# Altium footprint library ANTENNA.PcbLib: 5 footprints
Each footprint in its own frame and in the unit in brackets; x right, y up, seen from the top. Pads: shape width x height; smd on the part's side, far side on the other; paste and mask are expansions set on the pad; w line width, h text height; cw(c..) or ccw(c..) is an arc to the next point about the centre after c.
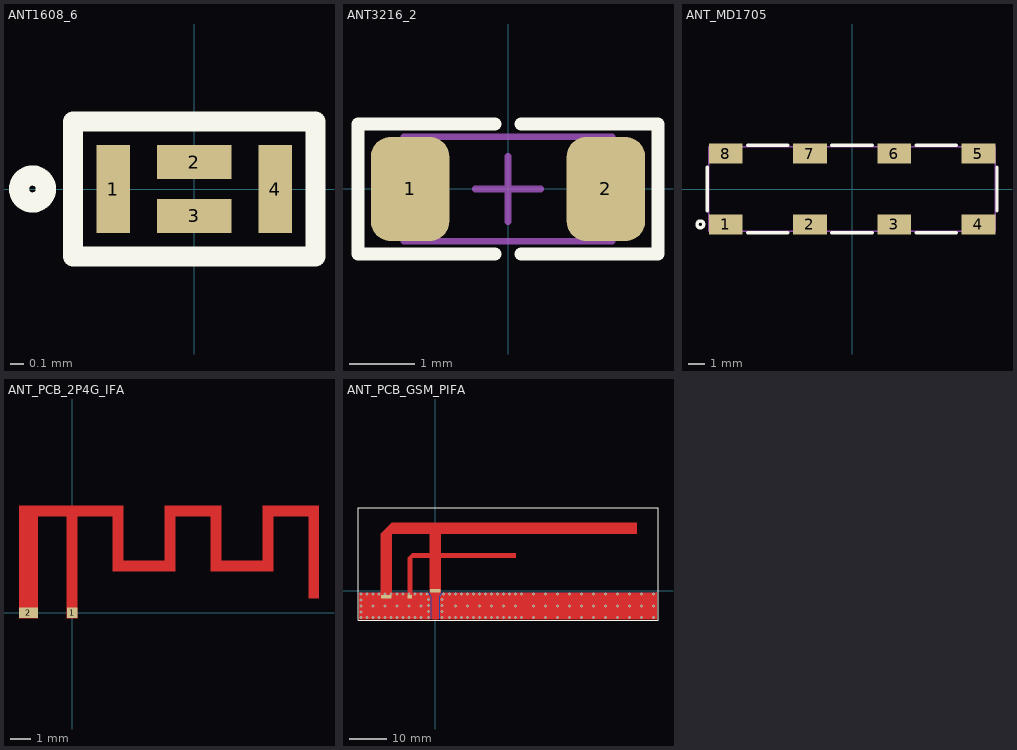
[diagram p0: the footprints below, top view; thin cyan lines are the x and y axes]

## ANT1608_6 [mm] "TDK 1.6x0.8mm, 6 pad"
height 0.4
pads (4):
  rect 0.25x0.65 smd paste-0.009 mask+0.05: 1(-0.6,0) 4(0.6,0)
  rect 0.55x0.25 smd paste-0.009 mask+0.05: 2(0,0.2) 3(0,-0.2)
Top Overlay:
  circle w0.15: c-1.2,0 r0.1
  lines w0.15: -0.9,-0.5 0.9,-0.5 0.9,0.5 -0.9,0.5 -0.9,-0.5
3D body "User Library-ANT016008LCS2442MA2.STEP": height 0.41, standoff 0, extent -0.8,-0.4 0.8,0.4

## ANT3216_2 [mm] "Antenna 3.2x1.6mm, 2 pad"
height 2
pads (2):
  rrect50% 1.2x1.6 smd mask+0.05: 1(-1.5,0) 2(1.5,0)
Top Overlay:
  lines w0.2: -0.2,-1 -2.3,-1 -2.3,1 -0.2,1 ; 0.2,-1 2.3,-1 2.3,1 0.2,1
Mechanical 13:
  lines w0.1: -1.6,-0.8 -1.6,0.8 1.6,0.8 1.6,-0.8 -1.6,-0.8
Mechanical 15:
  lines w0.1: -0.5,0 0.5,0 ; 0,-0.5 0,0.5
3D body "ANT3216A063R2400A.step": height 0.65, standoff 0, extent -1.525,-0.775 1.525,0.775

## ANT_MD1705 [mm] "Cellular Antenna"
pads (8):
  rect 2x1.2 smd mask+0.075: 1(-7.5,-2.1) 2(-2.5,-2.1) 3(2.5,-2.1) 4(7.5,-2.1) 5(7.5,2.1) 6(2.5,2.1) 7(-2.5,2.1) 8(-7.5,2.1)
Top Overlay:
  circle w0.2: c-9,-2.1 r0.2
  lines w0.2: -8.6,-1.3 -8.6,1.3 ; -6.2,-2.6 -3.8,-2.6 ; -6.2,2.6 -3.8,2.6 ; -1.2,-2.6 1.2,-2.6 ; -1.2,2.6 1.2,2.6 ; 3.8,-2.6 6.2,-2.6 ; 3.8,2.6 6.2,2.6 ; 8.6,-1.3 8.6,1.3
Mechanical 13:
  lines w0.1: -8.5,-2.5 -8.5,2.5 8.5,2.5 8.5,-2.5 -8.5,-2.5
3D body: height 1.6, standoff 0, extent -8.5,-2.5 8.5,2.5

## ANT_PCB_2P4G_IFA [mm] "ANTENNA, Microstrip, IFA, 2.4GHz"
height 1.6
pads (2):
  rect 0.5x0.5 smd mask+0.102: 1(0,0)
  rect 0.9x0.5 smd mask+0.102: 2(-2.097,0)
Top Layer:
  region: -2.547,4.627 -2.547,5.127 2.453,5.127 2.453,4.627
  region: -0.247,-0.263 -0.247,5.127 0.253,5.127 0.253,-0.263
  region: 11.853,0.687 11.853,5.127 11.353,5.127 11.353,0.687
  region: -2.547,-0.263 -2.547,5.127 -1.647,5.127 -1.647,-0.263
  region: 4.953,5.127 4.953,1.987 4.453,1.987 4.453,5.127
  region: 9.153,4.627 9.153,5.127 11.853,5.127 11.853,4.627
  region: 9.653,5.127 9.653,1.987 9.153,1.987 9.153,5.127
  region: 6.653,1.987 6.653,2.487 9.653,2.487 9.653,1.987
  region: 1.953,5.127 1.953,1.987 2.453,1.987 2.453,5.127
  region: 1.953,1.987 1.953,2.487 4.953,2.487 4.953,1.987
  region: 4.453,4.627 4.453,5.127 7.153,5.127 7.153,4.627
  region: 7.153,1.987 7.153,5.127 6.653,5.127 6.653,1.987

## ANT_PCB_GSM_PIFA [mm] "ANTENNA, Microstrip, PIFA, GSM 850MHz/1800MHz"
height 1.6
pads (3):
  rect 2.9x1 smd: 1(0,0) 3(-13.076,-1.6)
  rect 1.2x1 smd: 2(-6.768,-1.6)
via 45.4,-4.1 diameter 0.8 hole 0.5
via 48.6,-4.1 diameter 0.8 hole 0.5
via 51.8,-4.1 diameter 0.8 hole 0.5
via 55,-4.1 diameter 0.8 hole 0.5
via 58.2,-4.1 diameter 0.8 hole 0.5
via 26.2,-4.1 diameter 0.8 hole 0.5
via 29.4,-4.1 diameter 0.8 hole 0.5
via 32.6,-4.1 diameter 0.8 hole 0.5
via 35.8,-4.1 diameter 0.8 hole 0.5
via 39,-4.1 diameter 0.8 hole 0.5
via 42.2,-4.1 diameter 0.8 hole 0.5
via 5.4,-4.1 diameter 0.8 hole 0.5
via 8.6,-4.1 diameter 0.8 hole 0.5
via 11.8,-4.1 diameter 0.8 hole 0.5
via 15,-4.1 diameter 0.8 hole 0.5
via 18.2,-4.1 diameter 0.8 hole 0.5
via 21.4,-4.1 diameter 0.8 hole 0.5
via -3.8,-4.1 diameter 0.8 hole 0.5
via -7,-4.1 diameter 0.8 hole 0.5
via -10.2,-4.1 diameter 0.8 hole 0.5
via -13.4,-4.1 diameter 0.8 hole 0.5
via -16.6,-4.1 diameter 0.8 hole 0.5
via 58.2,-0.9 diameter 0.8 hole 0.5
via 58.2,-7.2 diameter 0.8 hole 0.5
via 55,-0.9 diameter 0.8 hole 0.5
via 55,-7.2 diameter 0.8 hole 0.5
via 51.8,-0.9 diameter 0.8 hole 0.5
via 51.8,-7.2 diameter 0.8 hole 0.5
via 48.6,-0.9 diameter 0.8 hole 0.5
via 48.6,-7.2 diameter 0.8 hole 0.5
via 45.4,-0.9 diameter 0.8 hole 0.5
via 45.4,-7.2 diameter 0.8 hole 0.5
via 42.2,-0.9 diameter 0.8 hole 0.5
via 42.2,-7.2 diameter 0.8 hole 0.5
via 39,-0.9 diameter 0.8 hole 0.5
via 39,-7.2 diameter 0.8 hole 0.5
via 35.8,-0.9 diameter 0.8 hole 0.5
via 35.8,-7.2 diameter 0.8 hole 0.5
via 32.6,-0.9 diameter 0.8 hole 0.5
via 32.6,-7.2 diameter 0.8 hole 0.5
via 29.4,-0.9 diameter 0.8 hole 0.5
via 29.4,-7.2 diameter 0.8 hole 0.5
via 26.2,-7.2 diameter 0.8 hole 0.5
via 26.2,-0.9 diameter 0.8 hole 0.5
via 23,-7.2 diameter 0.8 hole 0.5
via 21.4,-7.2 diameter 0.8 hole 0.5
via 19.8,-7.2 diameter 0.8 hole 0.5
via 23,-0.9 diameter 0.8 hole 0.5
via 21.4,-0.9 diameter 0.8 hole 0.5
via 19.8,-0.9 diameter 0.8 hole 0.5
via 1.8,-7.2 diameter 0.8 hole 0.5
via 1.8,-5.6 diameter 0.8 hole 0.5
via 1.8,-4 diameter 0.8 hole 0.5
via 1.8,-2.4 diameter 0.8 hole 0.5
via 2.2,-0.9 diameter 0.8 hole 0.5
via 3.8,-0.9 diameter 0.8 hole 0.5
via 7,-0.9 diameter 0.8 hole 0.5
via 10.2,-0.9 diameter 0.8 hole 0.5
via 13.4,-0.9 diameter 0.8 hole 0.5
via 15,-0.9 diameter 0.8 hole 0.5
via 16.6,-0.9 diameter 0.8 hole 0.5
via 11.8,-0.9 diameter 0.8 hole 0.5
via 8.6,-0.9 diameter 0.8 hole 0.5
via 5.4,-0.9 diameter 0.8 hole 0.5
via 18.2,-0.9 diameter 0.8 hole 0.5
via 15,-7.2 diameter 0.8 hole 0.5
via 16.6,-7.2 diameter 0.8 hole 0.5
via 18.2,-7.2 diameter 0.8 hole 0.5
via 10.2,-7.2 diameter 0.8 hole 0.5
via 11.8,-7.2 diameter 0.8 hole 0.5
via 13.4,-7.2 diameter 0.8 hole 0.5
via 5.4,-7.2 diameter 0.8 hole 0.5
via 7,-7.2 diameter 0.8 hole 0.5
via 8.6,-7.2 diameter 0.8 hole 0.5
via 3.8,-7.2 diameter 0.8 hole 0.5
via -3.8,-7.2 diameter 0.8 hole 0.5
via -8.6,-7.2 diameter 0.8 hole 0.5
via -7,-7.2 diameter 0.8 hole 0.5
via -5.4,-7.2 diameter 0.8 hole 0.5
via -13.4,-7.2 diameter 0.8 hole 0.5
via -11.8,-7.2 diameter 0.8 hole 0.5
via -10.2,-7.2 diameter 0.8 hole 0.5
via -18.2,-7.2 diameter 0.8 hole 0.5
via -16.6,-7.2 diameter 0.8 hole 0.5
via -15,-7.2 diameter 0.8 hole 0.5
via -19.8,-7.2 diameter 0.8 hole 0.5
via -19.8,-5.7 diameter 0.8 hole 0.5
via -19.8,-4.1 diameter 0.8 hole 0.5
via -19.8,-2.5 diameter 0.8 hole 0.5
via -19.8,-0.9 diameter 0.8 hole 0.5
via -18.2,-0.9 diameter 0.8 hole 0.5
via -5.4,-0.9 diameter 0.8 hole 0.5
via -8.6,-0.9 diameter 0.8 hole 0.5
via -11.8,-0.9 diameter 0.8 hole 0.5
via -16.6,-0.9 diameter 0.8 hole 0.5
via -15,-0.9 diameter 0.8 hole 0.5
via -13.4,-0.9 diameter 0.8 hole 0.5
via -10.2,-0.9 diameter 0.8 hole 0.5
via -7,-0.9 diameter 0.8 hole 0.5
via -3.8,-0.9 diameter 0.8 hole 0.5
via -2.2,-0.9 diameter 0.8 hole 0.5
via -1.8,-2.4 diameter 0.8 hole 0.5
via -1.8,-4 diameter 0.8 hole 0.5
via -1.8,-5.6 diameter 0.8 hole 0.5
via -1.8,-7.2 diameter 0.8 hole 0.5
Top Layer:
  region: -11.611,15.162 -1.478,15.162 -1.478,10.003 -6.147,10.003 -7.39,8.76 -7.39,-2.1 -6.146,-2.1 -6.146,8.752 -1.478,8.752 -1.478,-0.5 1.478,-0.5 1.478,8.752 21.48,8.752 21.48,10.003 1.478,10.003 1.478,15.162 53.684,15.162 53.684,18.117 -11.611,18.117 -11.611,18.093 -14.542,15.162 -14.542,-2.1 -11.611,-2.1
  region: 1.319,-7.6 1.322,-1.6 1.958,-0.5 59.1,-0.5 59.1,-7.6
  region: -1.319,-7.6 -1.322,-1.6 -1.958,-0.5 -20.3,-0.5 -20.3,-7.6
  region: -0.9,-7.6 -0.9,-1.5 -1.478,-0.5 -1.474,-0.166 1.474,-0.166 1.478,-0.5 0.9,-1.5 0.9,-7.6
Bottom Layer:
  rectangle: -20.3,-7.6 59.1,-0.5
Top Overlay:
  lines w0.2: -20.6,-7.9 59.4,-7.9 59.4,22.1 -20.6,22.1 -20.6,-7.9
Top Solder:
  rectangle: -20.6,-7.9 59.4,22.1
Bottom Solder:
  rectangle: -20.6,-7.9 59.4,22.1
Mechanical 13:
  text "Material: FR-4 (4.2 Er)" at -20,20.3 h2
  text "Dielectric thickness: normal (1.6mm)" at -19.9,18.5 h2